# Altium schematic symbol library ESP32.SchLib: 3 symbols
Pins are listed as number, name and electrical type; pins without a type are passive.

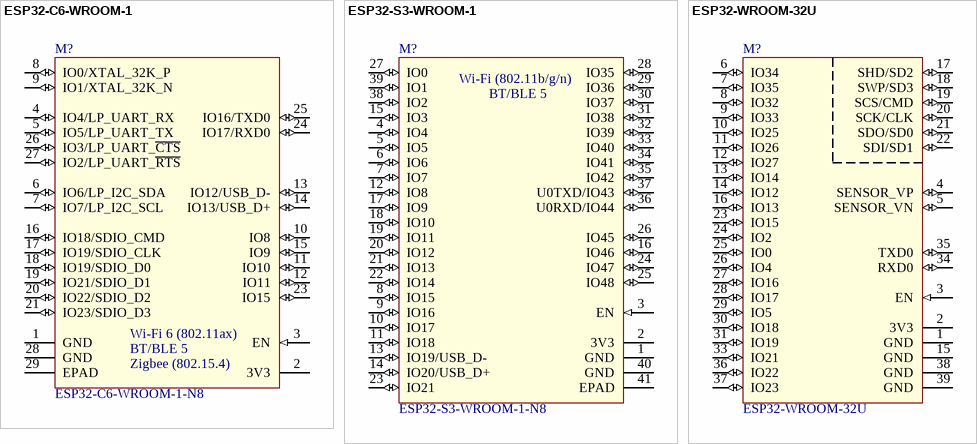
[diagram p0: symbols ESP32-C6-WROOM-1 to ESP32-WROOM-32U]

## ESP32-C6-WROOM-1
designator M?  value ESP32-C6-WROOM-1-N8  (hidden comment: ESP32-C6-WROOM-1)
footprint ESP32-C6-WROOM-1
pins: 1 GND (power), 2 3V3 (power), 3 EN (in) "High: on, enables the chip", 4 IO4/LP_UART_RX (io), 5 IO5/LP_UART_TX (io), 6 IO6/LP_I2C_SDA (io), 7 IO7/LP_I2C_SCL (io), 8 IO0/XTAL_32K_P (io), 9 IO1/XTAL_32K_N (io), 10 IO8 (io), 11 IO10 (io), 12 IO11 (io), 13 IO12/USB_D- (io), 14 IO13/USB_D+ (io), 15 IO9 (io), 16 IO18/SDIO_CMD (io), 17 IO19/SDIO_CLK (io), 18 IO19/SDIO_D0 (io), 19 IO21/SDIO_D1 (io), 20 IO22/SDIO_D2 (io), 21 IO23/SDIO_D3 (io), 23 IO15 (io), 24 IO17/RXD0 (io), 25 IO16/TXD0 (io), 26 IO3/LP_UART_~{CTS} (io), 27 IO2/LP_UART_~{RTS} (io), 28 GND (power), 29 EPAD (power)
text: Wi-Fi 6 (802.11ax); BT/BLE 5; Zigbee (802.15.4)

## ESP32-S3-WROOM-1
designator M?, comment value ESP32-S3-WROOM-1-N8  (hidden comment: ESP32-C6-WROOM-1)
footprint ESP32-S3-WROOM-1
pins: 1 GND (power), 2 3V3 (power), 3 EN (in) "High: on, enables the chip", 4 IO4 (io), 5 IO5 (io), 6 IO6 (io), 7 IO7 (io), 8 IO15 (io), 9 IO16 (io), 10 IO17 (io), 11 IO18 (io), 12 IO8 (io), 13 IO19/USB_D- (io), 14 IO20/USB_D+ (io), 15 IO3 (io), 16 IO46 (io), 17 IO9 (io), 18 IO10 (io), 19 IO11 (io), 20 IO12 (io), 21 IO13 (io), 22 IO14 (io), 23 IO21 (io), 24 IO47 (io), 25 IO48 (io), 26 IO45 (io), 27 IO0 (io), 28 IO35 (io), 29 IO36 (io), 30 IO37 (io), 31 IO38 (io), 32 IO39 (io), 33 IO40 (io), 34 IO41 (io), 35 IO42 (io), 36 U0RXD/IO44 (io), 37 U0TXD/IO43 (io), 38 IO2 (io), 39 IO1 (io), 40 GND (power), 41 EPAD (power)
text: Wi-Fi (802.11b/g/n); BT/BLE 5

## ESP32-WROOM-32U
designator M?
value: ESP32-WROOM-32U
footprint WROOM-32U (ESP32-WROOM-32U)
pins: 1 GND (power), 2 3V3 (power), 3 EN (in), 4 SENSOR_VP (io), 5 SENSOR_VN (io), 6 IO34 (io), 7 IO35 (io), 8 IO32 (io), 9 IO33 (io), 10 IO25 (io), 11 IO26 (io), 12 IO27 (io), 13 IO14 (io), 14 IO12 (io), 15 GND (power), 16 IO13 (io), 17 SHD/SD2 (io), 18 SWP/SD3 (io), 19 SCS/CMD (io), 20 SCK/CLK (io), 21 SDO/SD0 (io), 22 SDI/SD1 (io), 23 IO15 (io), 24 IO2 (io), 25 IO0 (io), 26 IO4 (io), 27 IO16 (io), 28 IO17 (io), 29 IO5 (io), 30 IO18 (io), 31 IO19 (io), 33 IO21 (io), 34 RXD0 (io), 35 TXD0 (io), 36 IO22 (io), 37 IO23 (io), 38 GND (power), 39 GND (power)